# EAGLE library part IRF7105 (library domonetic)
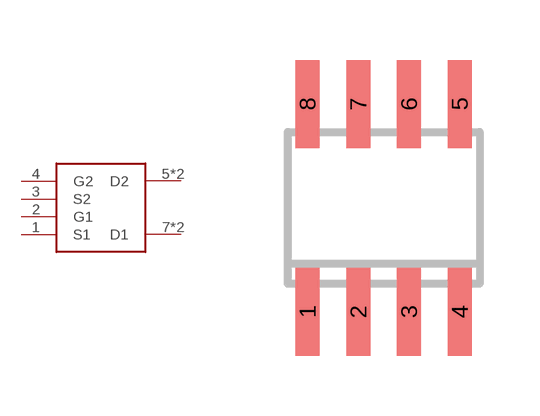
[diagram p12: symbol with the pads of SO08; footprint SO08]

Designator prefix -

## IRF7105SO08  [SO08]
1  S1  in
2  G1  in
3  S2
4  G2
5  D2  out
6  D2  out
7  D1  out
8  D1  out

## Footprint SO08 (pad centres in mm)
SMALL OUTLINE INTEGRATED CIRCUIT body 3.9 mm/JEDEC MS-012AA
smd 0.6 x 2.2: 1 -1.905,-2.6; 2 -0.635,-2.6; 3 0.635,-2.6; 4 1.905,-2.6; 5 1.905,2.6; 6 0.635,2.6; 7 -0.635,2.6; 8 -1.905,2.6